# Altium integrated library Spansion Memory Flash.IntLib: 812 symbols (part 3 of 21)
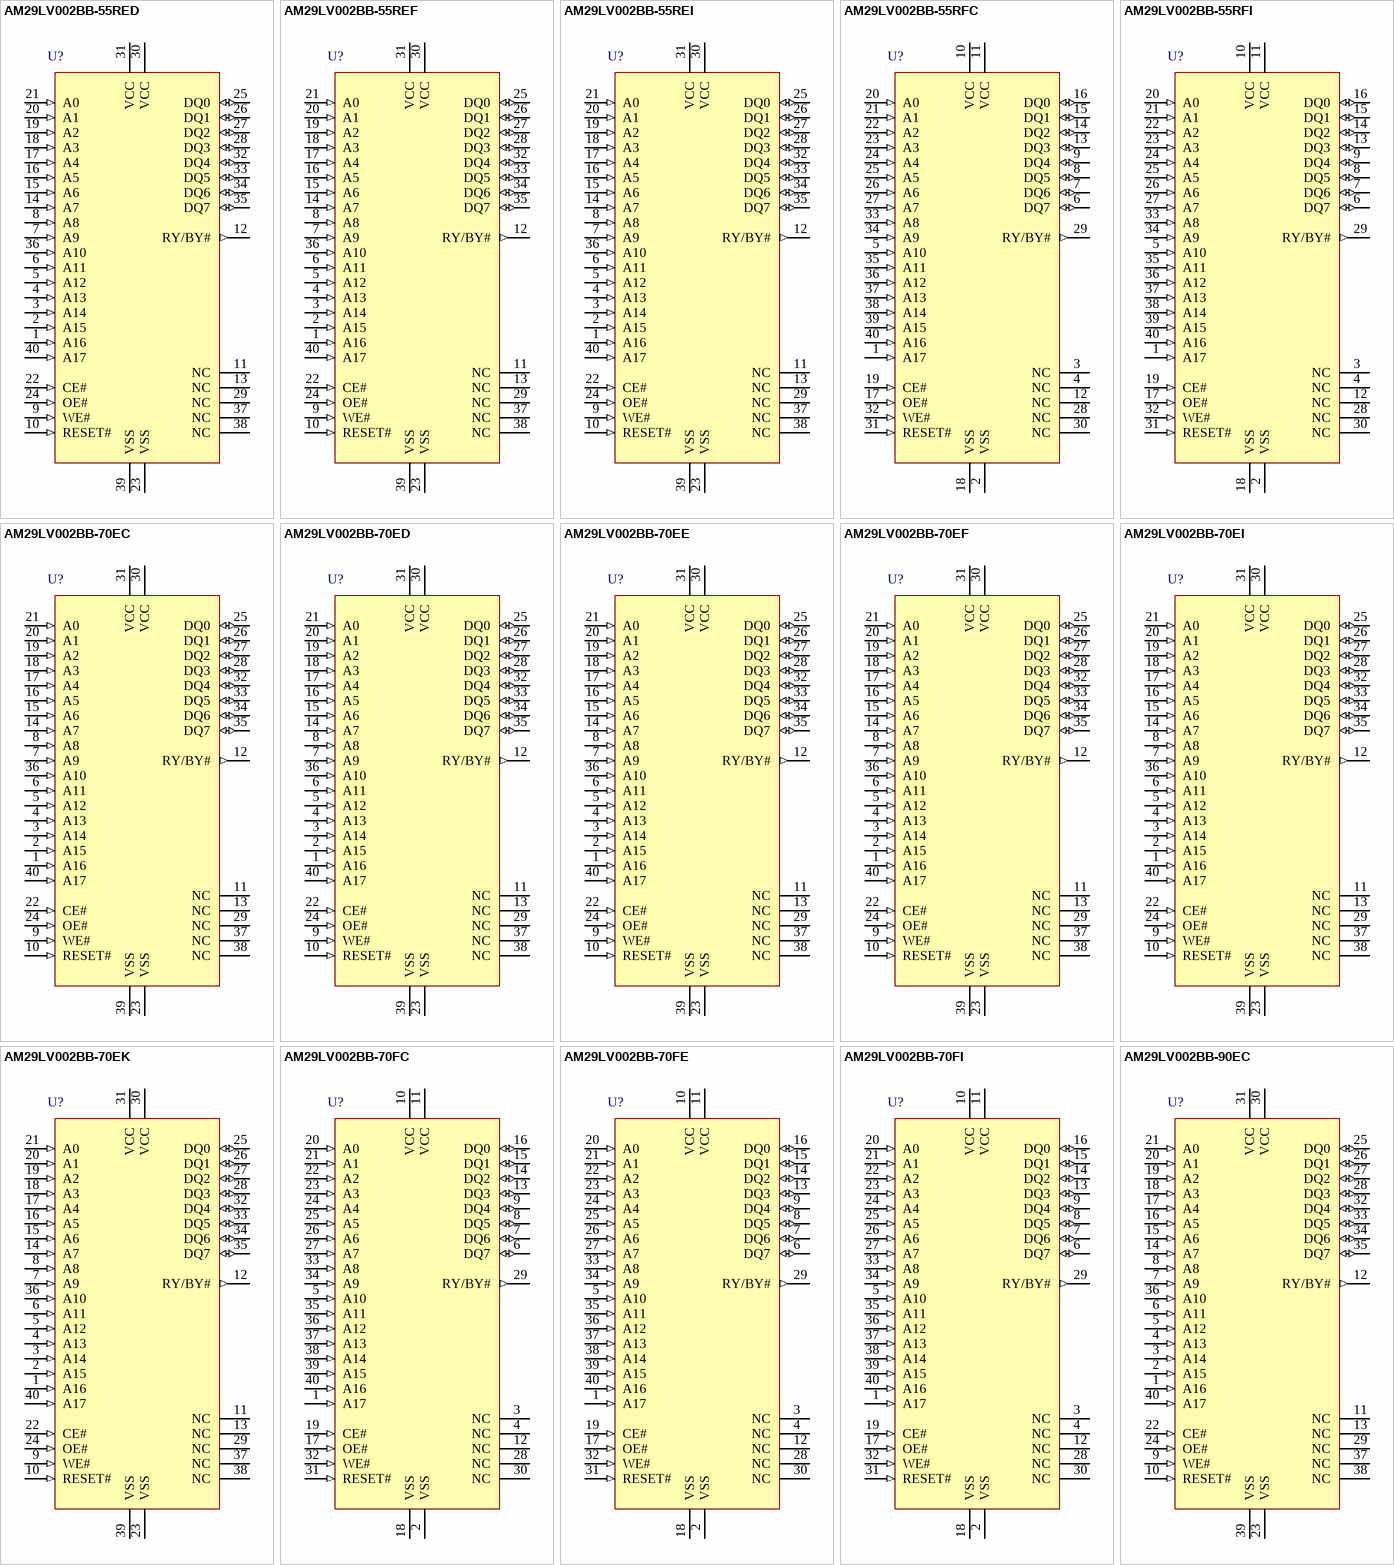
[diagram p68: symbols AM29LV002BB-55RED to AM29LV002BB-90EC]

## AM29LV002BB-55RFC
designator U?
2 Mb (256 K x 8) CMOS 3.0 Volt, Boot Sector Flash Memory, 40-Pin TSOP Reverse Pinout, Commercial Grade; Published: 6-Oct-2005; DatasheetVersion: Jun-2004; PackageVersion: revAA, 10/99; PackageReference: TSR040; Publisher: Altium Limited; PackageDescription: Thin Small Outline, Reverse Pinout; 40 Leads; Body Width 18.4 mm; Pitch 0.5 mm; Code_JEDEC: MO-142-CD; ComponentLink1Description: Manufacturer Link; ComponentLink1URL: http://www.spansion.com/; ComponentLink2Description: Datasheet; ComponentLink2URL: http://www.spansion.com/datasheets/21520d2.pdf
footprint TSR040 (Thin Small Outline, Reverse Pinout; 40 Leads; Body Width 18.4 mm; Pitch 0.5 mm)
pins: 1 A17 (in), 2 VSS (power), 3 NC, 4 NC, 5 A10 (in), 6 DQ7 (io), 7 DQ6 (io), 8 DQ5 (io), 9 DQ4 (io), 10 VCC (power), 11 VCC (power), 12 NC, 13 DQ3 (io), 14 DQ2 (io), 15 DQ1 (io), 16 DQ0 (io), 17 OE# (in), 18 VSS (power), 19 CE# (in), 20 A0 (in), 21 A1 (in), 22 A2 (in), 23 A3 (in), 24 A4 (in), 25 A5 (in), 26 A6 (in), 27 A7 (in), 28 NC, 29 RY/BY# (out), 30 NC, 31 RESET# (in), 32 WE# (in), 33 A8 (in), 34 A9 (in), 35 A11 (in), 36 A12 (in), 37 A13 (in), 38 A14 (in), 39 A15 (in), 40 A16 (in)

## AM29LV002BB-55RFI
designator U?
2 Mb (256 K x 8) CMOS 3.0 Volt, Boot Sector Flash Memory, 40-Pin TSOP Reverse Pinout, Industrial Grade; Published: 6-Oct-2005; DatasheetVersion: Jun-2004; PackageVersion: revAA, 10/99; PackageReference: TSR040; Publisher: Altium Limited; PackageDescription: Thin Small Outline, Reverse Pinout; 40 Leads; Body Width 18.4 mm; Pitch 0.5 mm; Code_JEDEC: MO-142-CD; ComponentLink1Description: Manufacturer Link; ComponentLink1URL: http://www.spansion.com/; ComponentLink2Description: Datasheet; ComponentLink2URL: http://www.spansion.com/datasheets/21520d2.pdf
footprint TSR040 (Thin Small Outline, Reverse Pinout; 40 Leads; Body Width 18.4 mm; Pitch 0.5 mm)
pins: 1 A17 (in), 2 VSS (power), 3 NC, 4 NC, 5 A10 (in), 6 DQ7 (io), 7 DQ6 (io), 8 DQ5 (io), 9 DQ4 (io), 10 VCC (power), 11 VCC (power), 12 NC, 13 DQ3 (io), 14 DQ2 (io), 15 DQ1 (io), 16 DQ0 (io), 17 OE# (in), 18 VSS (power), 19 CE# (in), 20 A0 (in), 21 A1 (in), 22 A2 (in), 23 A3 (in), 24 A4 (in), 25 A5 (in), 26 A6 (in), 27 A7 (in), 28 NC, 29 RY/BY# (out), 30 NC, 31 RESET# (in), 32 WE# (in), 33 A8 (in), 34 A9 (in), 35 A11 (in), 36 A12 (in), 37 A13 (in), 38 A14 (in), 39 A15 (in), 40 A16 (in)

## AM29LV002BB-70EC
designator U?
2 Mb (256 K x 8) CMOS 3.0 Volt, Boot Sector Flash Memory, 40-Pin TSOP Standard Pinout, Commercial Grade; Published: 6-Oct-2005; DatasheetVersion: Jun-2004; PackageVersion: revAA, 10/99; PackageReference: TS040; Publisher: Altium Limited; PackageDescription: Thin Small Outline; 40 Leads; Body Width 18.4 mm; Pitch 0.5 mm; Code_JEDEC: MO-142-CD; ComponentLink1Description: Manufacturer Link; ComponentLink1URL: http://www.spansion.com/; ComponentLink2Description: Datasheet; ComponentLink2URL: http://www.spansion.com/datasheets/21520d2.pdf
footprint TS040 (Thin Small Outline; 40 Leads; Body Width 18.4 mm; Pitch 0.5 mm)
pins: 1 A16 (in), 2 A15 (in), 3 A14 (in), 4 A13 (in), 5 A12 (in), 6 A11 (in), 7 A9 (in), 8 A8 (in), 9 WE# (in), 10 RESET# (in), 11 NC, 12 RY/BY# (out), 13 NC, 14 A7 (in), 15 A6 (in), 16 A5 (in), 17 A4 (in), 18 A3 (in), 19 A2 (in), 20 A1 (in), 21 A0 (in), 22 CE# (in), 23 VSS (power), 24 OE# (in), 25 DQ0 (io), 26 DQ1 (io), 27 DQ2 (io), 28 DQ3 (io), 29 NC, 30 VCC (power), 31 VCC (power), 32 DQ4 (io), 33 DQ5 (io), 34 DQ6 (io), 35 DQ7 (io), 36 A10 (in), 37 NC, 38 NC, 39 VSS (power), 40 A17 (in)

## AM29LV002BB-70ED
designator U?
2 Mb (256 K x 8) CMOS 3.0 Volt, Boot Sector Flash Memory, 40-Pin TSOP Standard Pinout, Commercial Grade, Pb-free; Published: 6-Oct-2005; DatasheetVersion: Jun-2004; PackageVersion: revAA, 10/99; PackageReference: TS040; Publisher: Altium Limited; PackageDescription: Thin Small Outline; 40 Leads; Body Width 18.4 mm; Pitch 0.5 mm; Code_JEDEC: MO-142-CD; ComponentLink1Description: Manufacturer Link; ComponentLink1URL: http://www.spansion.com/; ComponentLink2Description: Datasheet; ComponentLink2URL: http://www.spansion.com/datasheets/21520d2.pdf
footprint TS040 (Thin Small Outline; 40 Leads; Body Width 18.4 mm; Pitch 0.5 mm)
pins: 1 A16 (in), 2 A15 (in), 3 A14 (in), 4 A13 (in), 5 A12 (in), 6 A11 (in), 7 A9 (in), 8 A8 (in), 9 WE# (in), 10 RESET# (in), 11 NC, 12 RY/BY# (out), 13 NC, 14 A7 (in), 15 A6 (in), 16 A5 (in), 17 A4 (in), 18 A3 (in), 19 A2 (in), 20 A1 (in), 21 A0 (in), 22 CE# (in), 23 VSS (power), 24 OE# (in), 25 DQ0 (io), 26 DQ1 (io), 27 DQ2 (io), 28 DQ3 (io), 29 NC, 30 VCC (power), 31 VCC (power), 32 DQ4 (io), 33 DQ5 (io), 34 DQ6 (io), 35 DQ7 (io), 36 A10 (in), 37 NC, 38 NC, 39 VSS (power), 40 A17 (in)

## AM29LV002BB-70EE
designator U?
2 Mb (256 K x 8) CMOS 3.0 Volt, Boot Sector Flash Memory, 40-Pin TSOP Standard Pinout, Extended Grade; Published: 6-Oct-2005; DatasheetVersion: Jun-2004; PackageVersion: revAA, 10/99; PackageReference: TS040; Publisher: Altium Limited; PackageDescription: Thin Small Outline; 40 Leads; Body Width 18.4 mm; Pitch 0.5 mm; Code_JEDEC: MO-142-CD; ComponentLink1Description: Manufacturer Link; ComponentLink1URL: http://www.spansion.com/; ComponentLink2Description: Datasheet; ComponentLink2URL: http://www.spansion.com/datasheets/21520d2.pdf
footprint TS040 (Thin Small Outline; 40 Leads; Body Width 18.4 mm; Pitch 0.5 mm)
pins: 1 A16 (in), 2 A15 (in), 3 A14 (in), 4 A13 (in), 5 A12 (in), 6 A11 (in), 7 A9 (in), 8 A8 (in), 9 WE# (in), 10 RESET# (in), 11 NC, 12 RY/BY# (out), 13 NC, 14 A7 (in), 15 A6 (in), 16 A5 (in), 17 A4 (in), 18 A3 (in), 19 A2 (in), 20 A1 (in), 21 A0 (in), 22 CE# (in), 23 VSS (power), 24 OE# (in), 25 DQ0 (io), 26 DQ1 (io), 27 DQ2 (io), 28 DQ3 (io), 29 NC, 30 VCC (power), 31 VCC (power), 32 DQ4 (io), 33 DQ5 (io), 34 DQ6 (io), 35 DQ7 (io), 36 A10 (in), 37 NC, 38 NC, 39 VSS (power), 40 A17 (in)

## AM29LV002BB-70EF
designator U?
2 Mb (256 K x 8) CMOS 3.0 Volt, Boot Sector Flash Memory, 40-Pin TSOP Standard Pinout, Industrial Grade, Pb-free; Published: 6-Oct-2005; DatasheetVersion: Jun-2004; PackageVersion: revAA, 10/99; PackageReference: TS040; Publisher: Altium Limited; PackageDescription: Thin Small Outline; 40 Leads; Body Width 18.4 mm; Pitch 0.5 mm; Code_JEDEC: MO-142-CD; ComponentLink1Description: Manufacturer Link; ComponentLink1URL: http://www.spansion.com/; ComponentLink2Description: Datasheet; ComponentLink2URL: http://www.spansion.com/datasheets/21520d2.pdf
footprint TS040 (Thin Small Outline; 40 Leads; Body Width 18.4 mm; Pitch 0.5 mm)
pins: 1 A16 (in), 2 A15 (in), 3 A14 (in), 4 A13 (in), 5 A12 (in), 6 A11 (in), 7 A9 (in), 8 A8 (in), 9 WE# (in), 10 RESET# (in), 11 NC, 12 RY/BY# (out), 13 NC, 14 A7 (in), 15 A6 (in), 16 A5 (in), 17 A4 (in), 18 A3 (in), 19 A2 (in), 20 A1 (in), 21 A0 (in), 22 CE# (in), 23 VSS (power), 24 OE# (in), 25 DQ0 (io), 26 DQ1 (io), 27 DQ2 (io), 28 DQ3 (io), 29 NC, 30 VCC (power), 31 VCC (power), 32 DQ4 (io), 33 DQ5 (io), 34 DQ6 (io), 35 DQ7 (io), 36 A10 (in), 37 NC, 38 NC, 39 VSS (power), 40 A17 (in)

## AM29LV002BB-70EI
designator U?
2 Mb (256 K x 8) CMOS 3.0 Volt, Boot Sector Flash Memory, 40-Pin TSOP Standard Pinout, Industrial Grade; Published: 6-Oct-2005; DatasheetVersion: Jun-2004; PackageVersion: revAA, 10/99; PackageReference: TS040; Publisher: Altium Limited; PackageDescription: Thin Small Outline; 40 Leads; Body Width 18.4 mm; Pitch 0.5 mm; Code_JEDEC: MO-142-CD; ComponentLink1Description: Manufacturer Link; ComponentLink1URL: http://www.spansion.com/; ComponentLink2Description: Datasheet; ComponentLink2URL: http://www.spansion.com/datasheets/21520d2.pdf
footprint TS040 (Thin Small Outline; 40 Leads; Body Width 18.4 mm; Pitch 0.5 mm)
pins: 1 A16 (in), 2 A15 (in), 3 A14 (in), 4 A13 (in), 5 A12 (in), 6 A11 (in), 7 A9 (in), 8 A8 (in), 9 WE# (in), 10 RESET# (in), 11 NC, 12 RY/BY# (out), 13 NC, 14 A7 (in), 15 A6 (in), 16 A5 (in), 17 A4 (in), 18 A3 (in), 19 A2 (in), 20 A1 (in), 21 A0 (in), 22 CE# (in), 23 VSS (power), 24 OE# (in), 25 DQ0 (io), 26 DQ1 (io), 27 DQ2 (io), 28 DQ3 (io), 29 NC, 30 VCC (power), 31 VCC (power), 32 DQ4 (io), 33 DQ5 (io), 34 DQ6 (io), 35 DQ7 (io), 36 A10 (in), 37 NC, 38 NC, 39 VSS (power), 40 A17 (in)

## AM29LV002BB-70EK
designator U?
2 Mb (256 K x 8) CMOS 3.0 Volt, Boot Sector Flash Memory, 40-Pin TSOP Standard Pinout, Extended Grade, Pb-free; Published: 6-Oct-2005; DatasheetVersion: Jun-2004; PackageVersion: revAA, 10/99; PackageReference: TS040; Publisher: Altium Limited; PackageDescription: Thin Small Outline; 40 Leads; Body Width 18.4 mm; Pitch 0.5 mm; Code_JEDEC: MO-142-CD; ComponentLink1Description: Manufacturer Link; ComponentLink1URL: http://www.spansion.com/; ComponentLink2Description: Datasheet; ComponentLink2URL: http://www.spansion.com/datasheets/21520d2.pdf
footprint TS040 (Thin Small Outline; 40 Leads; Body Width 18.4 mm; Pitch 0.5 mm)
pins: 1 A16 (in), 2 A15 (in), 3 A14 (in), 4 A13 (in), 5 A12 (in), 6 A11 (in), 7 A9 (in), 8 A8 (in), 9 WE# (in), 10 RESET# (in), 11 NC, 12 RY/BY# (out), 13 NC, 14 A7 (in), 15 A6 (in), 16 A5 (in), 17 A4 (in), 18 A3 (in), 19 A2 (in), 20 A1 (in), 21 A0 (in), 22 CE# (in), 23 VSS (power), 24 OE# (in), 25 DQ0 (io), 26 DQ1 (io), 27 DQ2 (io), 28 DQ3 (io), 29 NC, 30 VCC (power), 31 VCC (power), 32 DQ4 (io), 33 DQ5 (io), 34 DQ6 (io), 35 DQ7 (io), 36 A10 (in), 37 NC, 38 NC, 39 VSS (power), 40 A17 (in)

## AM29LV002BB-70FC
designator U?
2 Mb (256 K x 8) CMOS 3.0 Volt, Boot Sector Flash Memory, 40-Pin TSOP Reverse Pinout, Commercial Grade; Published: 6-Oct-2005; DatasheetVersion: Jun-2004; PackageVersion: revAA, 10/99; PackageReference: TSR040; Publisher: Altium Limited; PackageDescription: Thin Small Outline, Reverse Pinout; 40 Leads; Body Width 18.4 mm; Pitch 0.5 mm; Code_JEDEC: MO-142-CD; ComponentLink1Description: Manufacturer Link; ComponentLink1URL: http://www.spansion.com/; ComponentLink2Description: Datasheet; ComponentLink2URL: http://www.spansion.com/datasheets/21520d2.pdf
footprint TSR040 (Thin Small Outline, Reverse Pinout; 40 Leads; Body Width 18.4 mm; Pitch 0.5 mm)
pins: 1 A17 (in), 2 VSS (power), 3 NC, 4 NC, 5 A10 (in), 6 DQ7 (io), 7 DQ6 (io), 8 DQ5 (io), 9 DQ4 (io), 10 VCC (power), 11 VCC (power), 12 NC, 13 DQ3 (io), 14 DQ2 (io), 15 DQ1 (io), 16 DQ0 (io), 17 OE# (in), 18 VSS (power), 19 CE# (in), 20 A0 (in), 21 A1 (in), 22 A2 (in), 23 A3 (in), 24 A4 (in), 25 A5 (in), 26 A6 (in), 27 A7 (in), 28 NC, 29 RY/BY# (out), 30 NC, 31 RESET# (in), 32 WE# (in), 33 A8 (in), 34 A9 (in), 35 A11 (in), 36 A12 (in), 37 A13 (in), 38 A14 (in), 39 A15 (in), 40 A16 (in)

## AM29LV002BB-70FE
designator U?
2 Mb (256 K x 8) CMOS 3.0 Volt, Boot Sector Flash Memory, 40-Pin TSOP Reverse Pinout, Extended Grade; Published: 6-Oct-2005; DatasheetVersion: Jun-2004; PackageVersion: revAA, 10/99; PackageReference: TSR040; Publisher: Altium Limited; PackageDescription: Thin Small Outline, Reverse Pinout; 40 Leads; Body Width 18.4 mm; Pitch 0.5 mm; Code_JEDEC: MO-142-CD; ComponentLink1Description: Manufacturer Link; ComponentLink1URL: http://www.spansion.com/; ComponentLink2Description: Datasheet; ComponentLink2URL: http://www.spansion.com/datasheets/21520d2.pdf
footprint TSR040 (Thin Small Outline, Reverse Pinout; 40 Leads; Body Width 18.4 mm; Pitch 0.5 mm)
pins: 1 A17 (in), 2 VSS (power), 3 NC, 4 NC, 5 A10 (in), 6 DQ7 (io), 7 DQ6 (io), 8 DQ5 (io), 9 DQ4 (io), 10 VCC (power), 11 VCC (power), 12 NC, 13 DQ3 (io), 14 DQ2 (io), 15 DQ1 (io), 16 DQ0 (io), 17 OE# (in), 18 VSS (power), 19 CE# (in), 20 A0 (in), 21 A1 (in), 22 A2 (in), 23 A3 (in), 24 A4 (in), 25 A5 (in), 26 A6 (in), 27 A7 (in), 28 NC, 29 RY/BY# (out), 30 NC, 31 RESET# (in), 32 WE# (in), 33 A8 (in), 34 A9 (in), 35 A11 (in), 36 A12 (in), 37 A13 (in), 38 A14 (in), 39 A15 (in), 40 A16 (in)

## AM29LV002BB-70FI
designator U?
2 Mb (256 K x 8) CMOS 3.0 Volt, Boot Sector Flash Memory, 40-Pin TSOP Reverse Pinout, Industrial Grade; Published: 6-Oct-2005; DatasheetVersion: Jun-2004; PackageVersion: revAA, 10/99; PackageReference: TSR040; Publisher: Altium Limited; PackageDescription: Thin Small Outline, Reverse Pinout; 40 Leads; Body Width 18.4 mm; Pitch 0.5 mm; Code_JEDEC: MO-142-CD; ComponentLink1Description: Manufacturer Link; ComponentLink1URL: http://www.spansion.com/; ComponentLink2Description: Datasheet; ComponentLink2URL: http://www.spansion.com/datasheets/21520d2.pdf
footprint TSR040 (Thin Small Outline, Reverse Pinout; 40 Leads; Body Width 18.4 mm; Pitch 0.5 mm)
pins: 1 A17 (in), 2 VSS (power), 3 NC, 4 NC, 5 A10 (in), 6 DQ7 (io), 7 DQ6 (io), 8 DQ5 (io), 9 DQ4 (io), 10 VCC (power), 11 VCC (power), 12 NC, 13 DQ3 (io), 14 DQ2 (io), 15 DQ1 (io), 16 DQ0 (io), 17 OE# (in), 18 VSS (power), 19 CE# (in), 20 A0 (in), 21 A1 (in), 22 A2 (in), 23 A3 (in), 24 A4 (in), 25 A5 (in), 26 A6 (in), 27 A7 (in), 28 NC, 29 RY/BY# (out), 30 NC, 31 RESET# (in), 32 WE# (in), 33 A8 (in), 34 A9 (in), 35 A11 (in), 36 A12 (in), 37 A13 (in), 38 A14 (in), 39 A15 (in), 40 A16 (in)

## AM29LV002BB-90EC
designator U?
2 Mb (256 K x 8) CMOS 3.0 Volt, Boot Sector Flash Memory, 40-Pin TSOP Standard Pinout, Commercial Grade; Published: 6-Oct-2005; DatasheetVersion: Jun-2004; PackageVersion: revAA, 10/99; PackageReference: TS040; Publisher: Altium Limited; PackageDescription: Thin Small Outline; 40 Leads; Body Width 18.4 mm; Pitch 0.5 mm; Code_JEDEC: MO-142-CD; ComponentLink1Description: Manufacturer Link; ComponentLink1URL: http://www.spansion.com/; ComponentLink2Description: Datasheet; ComponentLink2URL: http://www.spansion.com/datasheets/21520d2.pdf
footprint TS040 (Thin Small Outline; 40 Leads; Body Width 18.4 mm; Pitch 0.5 mm)
pins: 1 A16 (in), 2 A15 (in), 3 A14 (in), 4 A13 (in), 5 A12 (in), 6 A11 (in), 7 A9 (in), 8 A8 (in), 9 WE# (in), 10 RESET# (in), 11 NC, 12 RY/BY# (out), 13 NC, 14 A7 (in), 15 A6 (in), 16 A5 (in), 17 A4 (in), 18 A3 (in), 19 A2 (in), 20 A1 (in), 21 A0 (in), 22 CE# (in), 23 VSS (power), 24 OE# (in), 25 DQ0 (io), 26 DQ1 (io), 27 DQ2 (io), 28 DQ3 (io), 29 NC, 30 VCC (power), 31 VCC (power), 32 DQ4 (io), 33 DQ5 (io), 34 DQ6 (io), 35 DQ7 (io), 36 A10 (in), 37 NC, 38 NC, 39 VSS (power), 40 A17 (in)

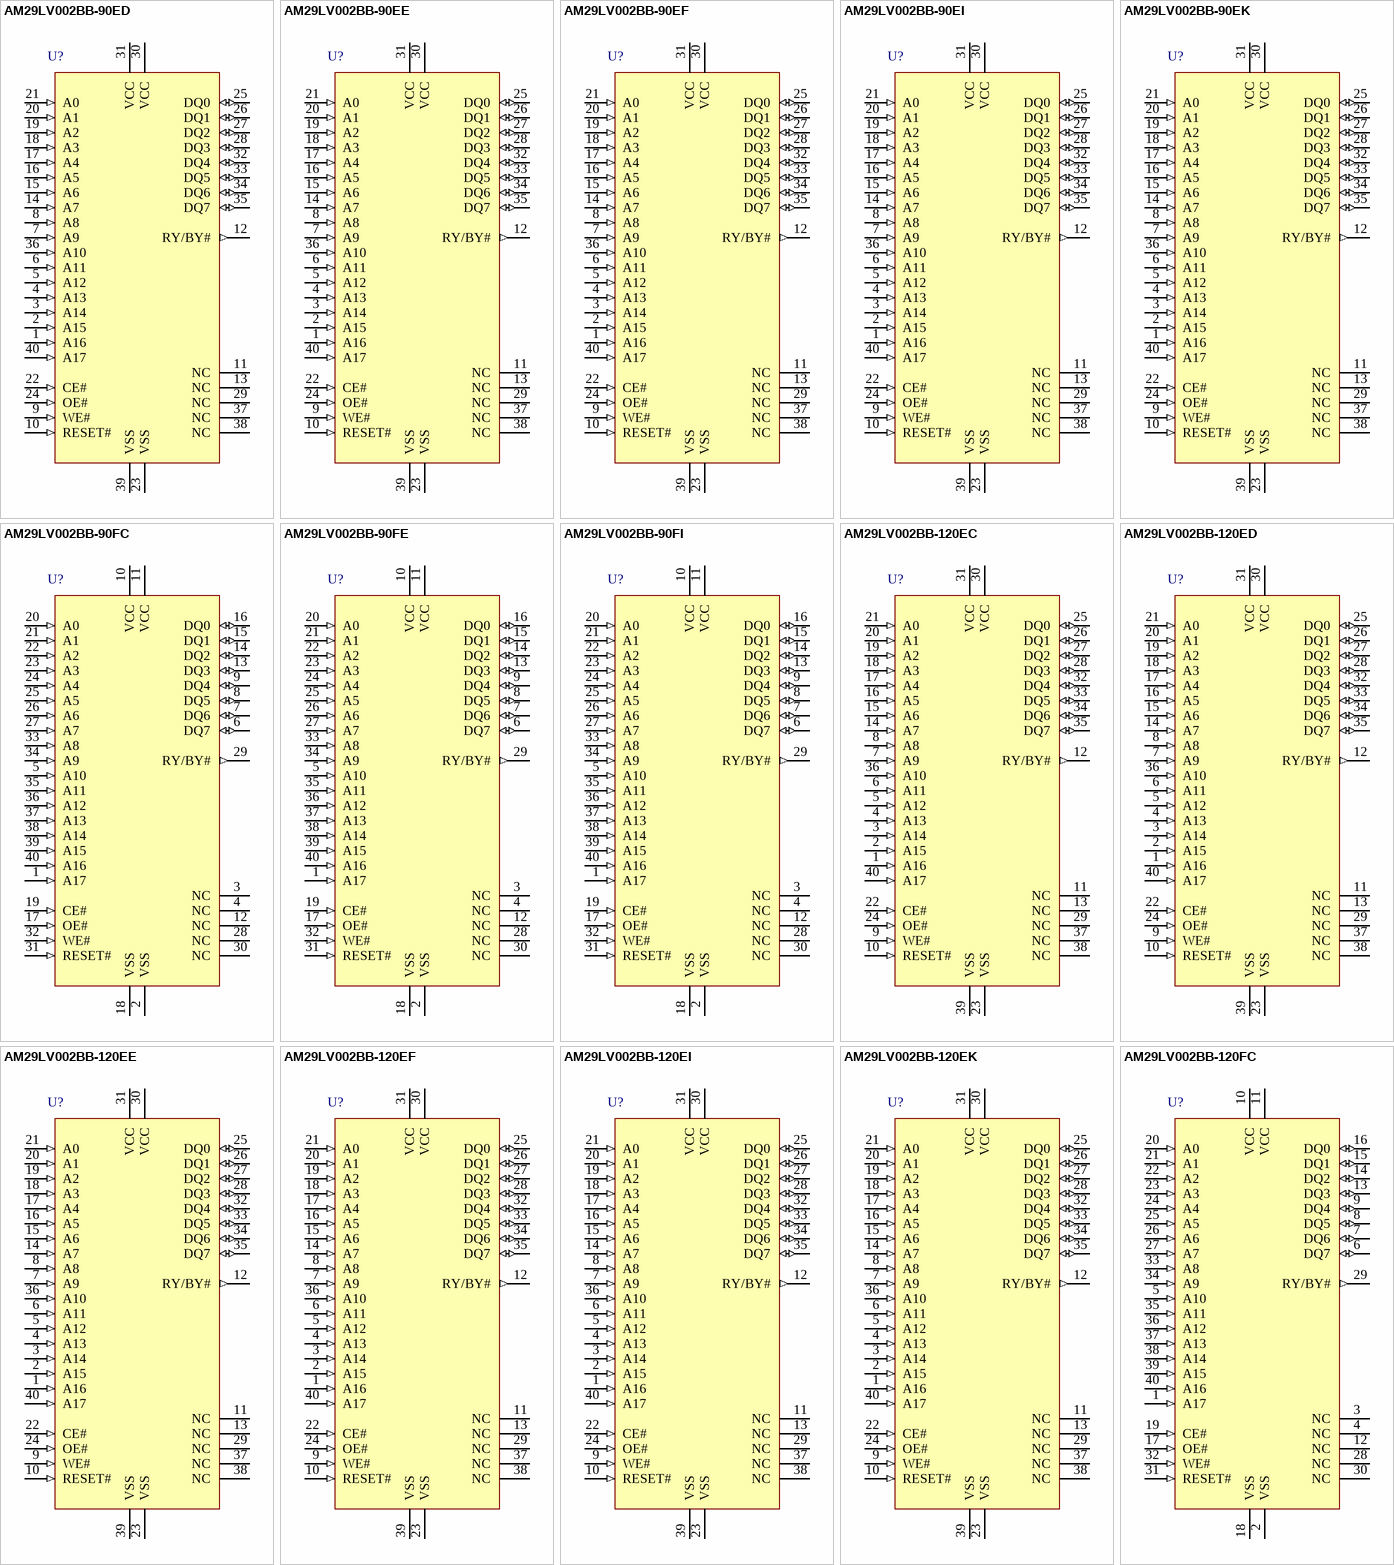
[diagram p6: symbols AM29LV002BB-90ED to AM29LV002BB-120FC]

## AM29LV002BB-90ED
designator U?
2 Mb (256 K x 8) CMOS 3.0 Volt, Boot Sector Flash Memory, 40-Pin TSOP Standard Pinout, Commercial Grade, Pb-free; Published: 6-Oct-2005; DatasheetVersion: Jun-2004; PackageVersion: revAA, 10/99; PackageReference: TS040; Publisher: Altium Limited; PackageDescription: Thin Small Outline; 40 Leads; Body Width 18.4 mm; Pitch 0.5 mm; Code_JEDEC: MO-142-CD; ComponentLink1Description: Manufacturer Link; ComponentLink1URL: http://www.spansion.com/; ComponentLink2Description: Datasheet; ComponentLink2URL: http://www.spansion.com/datasheets/21520d2.pdf
footprint TS040 (Thin Small Outline; 40 Leads; Body Width 18.4 mm; Pitch 0.5 mm)
pins: 1 A16 (in), 2 A15 (in), 3 A14 (in), 4 A13 (in), 5 A12 (in), 6 A11 (in), 7 A9 (in), 8 A8 (in), 9 WE# (in), 10 RESET# (in), 11 NC, 12 RY/BY# (out), 13 NC, 14 A7 (in), 15 A6 (in), 16 A5 (in), 17 A4 (in), 18 A3 (in), 19 A2 (in), 20 A1 (in), 21 A0 (in), 22 CE# (in), 23 VSS (power), 24 OE# (in), 25 DQ0 (io), 26 DQ1 (io), 27 DQ2 (io), 28 DQ3 (io), 29 NC, 30 VCC (power), 31 VCC (power), 32 DQ4 (io), 33 DQ5 (io), 34 DQ6 (io), 35 DQ7 (io), 36 A10 (in), 37 NC, 38 NC, 39 VSS (power), 40 A17 (in)

## AM29LV002BB-90EE
designator U?
2 Mb (256 K x 8) CMOS 3.0 Volt, Boot Sector Flash Memory, 40-Pin TSOP Standard Pinout, Extended Grade; Published: 6-Oct-2005; DatasheetVersion: Jun-2004; PackageVersion: revAA, 10/99; PackageReference: TS040; Publisher: Altium Limited; PackageDescription: Thin Small Outline; 40 Leads; Body Width 18.4 mm; Pitch 0.5 mm; Code_JEDEC: MO-142-CD; ComponentLink1Description: Manufacturer Link; ComponentLink1URL: http://www.spansion.com/; ComponentLink2Description: Datasheet; ComponentLink2URL: http://www.spansion.com/datasheets/21520d2.pdf
footprint TS040 (Thin Small Outline; 40 Leads; Body Width 18.4 mm; Pitch 0.5 mm)
pins: 1 A16 (in), 2 A15 (in), 3 A14 (in), 4 A13 (in), 5 A12 (in), 6 A11 (in), 7 A9 (in), 8 A8 (in), 9 WE# (in), 10 RESET# (in), 11 NC, 12 RY/BY# (out), 13 NC, 14 A7 (in), 15 A6 (in), 16 A5 (in), 17 A4 (in), 18 A3 (in), 19 A2 (in), 20 A1 (in), 21 A0 (in), 22 CE# (in), 23 VSS (power), 24 OE# (in), 25 DQ0 (io), 26 DQ1 (io), 27 DQ2 (io), 28 DQ3 (io), 29 NC, 30 VCC (power), 31 VCC (power), 32 DQ4 (io), 33 DQ5 (io), 34 DQ6 (io), 35 DQ7 (io), 36 A10 (in), 37 NC, 38 NC, 39 VSS (power), 40 A17 (in)

## AM29LV002BB-90EF
designator U?
2 Mb (256 K x 8) CMOS 3.0 Volt, Boot Sector Flash Memory, 40-Pin TSOP Standard Pinout, Industrial Grade, Pb-free; Published: 6-Oct-2005; DatasheetVersion: Jun-2004; PackageVersion: revAA, 10/99; PackageReference: TS040; Publisher: Altium Limited; PackageDescription: Thin Small Outline; 40 Leads; Body Width 18.4 mm; Pitch 0.5 mm; Code_JEDEC: MO-142-CD; ComponentLink1Description: Manufacturer Link; ComponentLink1URL: http://www.spansion.com/; ComponentLink2Description: Datasheet; ComponentLink2URL: http://www.spansion.com/datasheets/21520d2.pdf
footprint TS040 (Thin Small Outline; 40 Leads; Body Width 18.4 mm; Pitch 0.5 mm)
pins: 1 A16 (in), 2 A15 (in), 3 A14 (in), 4 A13 (in), 5 A12 (in), 6 A11 (in), 7 A9 (in), 8 A8 (in), 9 WE# (in), 10 RESET# (in), 11 NC, 12 RY/BY# (out), 13 NC, 14 A7 (in), 15 A6 (in), 16 A5 (in), 17 A4 (in), 18 A3 (in), 19 A2 (in), 20 A1 (in), 21 A0 (in), 22 CE# (in), 23 VSS (power), 24 OE# (in), 25 DQ0 (io), 26 DQ1 (io), 27 DQ2 (io), 28 DQ3 (io), 29 NC, 30 VCC (power), 31 VCC (power), 32 DQ4 (io), 33 DQ5 (io), 34 DQ6 (io), 35 DQ7 (io), 36 A10 (in), 37 NC, 38 NC, 39 VSS (power), 40 A17 (in)

## AM29LV002BB-90EI
designator U?
2 Mb (256 K x 8) CMOS 3.0 Volt, Boot Sector Flash Memory, 40-Pin TSOP Standard Pinout, Industrial Grade; Published: 6-Oct-2005; DatasheetVersion: Jun-2004; PackageVersion: revAA, 10/99; PackageReference: TS040; Publisher: Altium Limited; PackageDescription: Thin Small Outline; 40 Leads; Body Width 18.4 mm; Pitch 0.5 mm; Code_JEDEC: MO-142-CD; ComponentLink1Description: Manufacturer Link; ComponentLink1URL: http://www.spansion.com/; ComponentLink2Description: Datasheet; ComponentLink2URL: http://www.spansion.com/datasheets/21520d2.pdf
footprint TS040 (Thin Small Outline; 40 Leads; Body Width 18.4 mm; Pitch 0.5 mm)
pins: 1 A16 (in), 2 A15 (in), 3 A14 (in), 4 A13 (in), 5 A12 (in), 6 A11 (in), 7 A9 (in), 8 A8 (in), 9 WE# (in), 10 RESET# (in), 11 NC, 12 RY/BY# (out), 13 NC, 14 A7 (in), 15 A6 (in), 16 A5 (in), 17 A4 (in), 18 A3 (in), 19 A2 (in), 20 A1 (in), 21 A0 (in), 22 CE# (in), 23 VSS (power), 24 OE# (in), 25 DQ0 (io), 26 DQ1 (io), 27 DQ2 (io), 28 DQ3 (io), 29 NC, 30 VCC (power), 31 VCC (power), 32 DQ4 (io), 33 DQ5 (io), 34 DQ6 (io), 35 DQ7 (io), 36 A10 (in), 37 NC, 38 NC, 39 VSS (power), 40 A17 (in)

## AM29LV002BB-90EK
designator U?
2 Mb (256 K x 8) CMOS 3.0 Volt, Boot Sector Flash Memory, 40-Pin TSOP Standard Pinout, Extended Grade, Pb-free; Published: 6-Oct-2005; DatasheetVersion: Jun-2004; PackageVersion: revAA, 10/99; PackageReference: TS040; Publisher: Altium Limited; PackageDescription: Thin Small Outline; 40 Leads; Body Width 18.4 mm; Pitch 0.5 mm; Code_JEDEC: MO-142-CD; ComponentLink1Description: Manufacturer Link; ComponentLink1URL: http://www.spansion.com/; ComponentLink2Description: Datasheet; ComponentLink2URL: http://www.spansion.com/datasheets/21520d2.pdf
footprint TS040 (Thin Small Outline; 40 Leads; Body Width 18.4 mm; Pitch 0.5 mm)
pins: 1 A16 (in), 2 A15 (in), 3 A14 (in), 4 A13 (in), 5 A12 (in), 6 A11 (in), 7 A9 (in), 8 A8 (in), 9 WE# (in), 10 RESET# (in), 11 NC, 12 RY/BY# (out), 13 NC, 14 A7 (in), 15 A6 (in), 16 A5 (in), 17 A4 (in), 18 A3 (in), 19 A2 (in), 20 A1 (in), 21 A0 (in), 22 CE# (in), 23 VSS (power), 24 OE# (in), 25 DQ0 (io), 26 DQ1 (io), 27 DQ2 (io), 28 DQ3 (io), 29 NC, 30 VCC (power), 31 VCC (power), 32 DQ4 (io), 33 DQ5 (io), 34 DQ6 (io), 35 DQ7 (io), 36 A10 (in), 37 NC, 38 NC, 39 VSS (power), 40 A17 (in)

## AM29LV002BB-90FC
designator U?
2 Mb (256 K x 8) CMOS 3.0 Volt, Boot Sector Flash Memory, 40-Pin TSOP Reverse Pinout, Commercial Grade; Published: 6-Oct-2005; DatasheetVersion: Jun-2004; PackageVersion: revAA, 10/99; PackageReference: TSR040; Publisher: Altium Limited; PackageDescription: Thin Small Outline, Reverse Pinout; 40 Leads; Body Width 18.4 mm; Pitch 0.5 mm; Code_JEDEC: MO-142-CD; ComponentLink1Description: Manufacturer Link; ComponentLink1URL: http://www.spansion.com/; ComponentLink2Description: Datasheet; ComponentLink2URL: http://www.spansion.com/datasheets/21520d2.pdf
footprint TSR040 (Thin Small Outline, Reverse Pinout; 40 Leads; Body Width 18.4 mm; Pitch 0.5 mm)
pins: 1 A17 (in), 2 VSS (power), 3 NC, 4 NC, 5 A10 (in), 6 DQ7 (io), 7 DQ6 (io), 8 DQ5 (io), 9 DQ4 (io), 10 VCC (power), 11 VCC (power), 12 NC, 13 DQ3 (io), 14 DQ2 (io), 15 DQ1 (io), 16 DQ0 (io), 17 OE# (in), 18 VSS (power), 19 CE# (in), 20 A0 (in), 21 A1 (in), 22 A2 (in), 23 A3 (in), 24 A4 (in), 25 A5 (in), 26 A6 (in), 27 A7 (in), 28 NC, 29 RY/BY# (out), 30 NC, 31 RESET# (in), 32 WE# (in), 33 A8 (in), 34 A9 (in), 35 A11 (in), 36 A12 (in), 37 A13 (in), 38 A14 (in), 39 A15 (in), 40 A16 (in)

## AM29LV002BB-90FE
designator U?
2 Mb (256 K x 8) CMOS 3.0 Volt, Boot Sector Flash Memory, 40-Pin TSOP Reverse Pinout, Extended Grade; Published: 6-Oct-2005; DatasheetVersion: Jun-2004; PackageVersion: revAA, 10/99; PackageReference: TSR040; Publisher: Altium Limited; PackageDescription: Thin Small Outline, Reverse Pinout; 40 Leads; Body Width 18.4 mm; Pitch 0.5 mm; Code_JEDEC: MO-142-CD; ComponentLink1Description: Manufacturer Link; ComponentLink1URL: http://www.spansion.com/; ComponentLink2Description: Datasheet; ComponentLink2URL: http://www.spansion.com/datasheets/21520d2.pdf
footprint TSR040 (Thin Small Outline, Reverse Pinout; 40 Leads; Body Width 18.4 mm; Pitch 0.5 mm)
pins: 1 A17 (in), 2 VSS (power), 3 NC, 4 NC, 5 A10 (in), 6 DQ7 (io), 7 DQ6 (io), 8 DQ5 (io), 9 DQ4 (io), 10 VCC (power), 11 VCC (power), 12 NC, 13 DQ3 (io), 14 DQ2 (io), 15 DQ1 (io), 16 DQ0 (io), 17 OE# (in), 18 VSS (power), 19 CE# (in), 20 A0 (in), 21 A1 (in), 22 A2 (in), 23 A3 (in), 24 A4 (in), 25 A5 (in), 26 A6 (in), 27 A7 (in), 28 NC, 29 RY/BY# (out), 30 NC, 31 RESET# (in), 32 WE# (in), 33 A8 (in), 34 A9 (in), 35 A11 (in), 36 A12 (in), 37 A13 (in), 38 A14 (in), 39 A15 (in), 40 A16 (in)

## AM29LV002BB-90FI
designator U?
2 Mb (256 K x 8) CMOS 3.0 Volt, Boot Sector Flash Memory, 40-Pin TSOP Reverse Pinout, Industrial Grade; Published: 6-Oct-2005; DatasheetVersion: Jun-2004; PackageVersion: revAA, 10/99; PackageReference: TSR040; Publisher: Altium Limited; PackageDescription: Thin Small Outline, Reverse Pinout; 40 Leads; Body Width 18.4 mm; Pitch 0.5 mm; Code_JEDEC: MO-142-CD; ComponentLink1Description: Manufacturer Link; ComponentLink1URL: http://www.spansion.com/; ComponentLink2Description: Datasheet; ComponentLink2URL: http://www.spansion.com/datasheets/21520d2.pdf
footprint TSR040 (Thin Small Outline, Reverse Pinout; 40 Leads; Body Width 18.4 mm; Pitch 0.5 mm)
pins: 1 A17 (in), 2 VSS (power), 3 NC, 4 NC, 5 A10 (in), 6 DQ7 (io), 7 DQ6 (io), 8 DQ5 (io), 9 DQ4 (io), 10 VCC (power), 11 VCC (power), 12 NC, 13 DQ3 (io), 14 DQ2 (io), 15 DQ1 (io), 16 DQ0 (io), 17 OE# (in), 18 VSS (power), 19 CE# (in), 20 A0 (in), 21 A1 (in), 22 A2 (in), 23 A3 (in), 24 A4 (in), 25 A5 (in), 26 A6 (in), 27 A7 (in), 28 NC, 29 RY/BY# (out), 30 NC, 31 RESET# (in), 32 WE# (in), 33 A8 (in), 34 A9 (in), 35 A11 (in), 36 A12 (in), 37 A13 (in), 38 A14 (in), 39 A15 (in), 40 A16 (in)

## AM29LV002BB-120EC
designator U?
2 Mb (256 K x 8) CMOS 3.0 Volt, Boot Sector Flash Memory, 40-Pin TSOP Standard Pinout, Commercial Grade; Published: 6-Oct-2005; DatasheetVersion: Jun-2004; PackageVersion: revAA, 10/99; PackageReference: TS040; Publisher: Altium Limited; PackageDescription: Thin Small Outline; 40 Leads; Body Width 18.4 mm; Pitch 0.5 mm; Code_JEDEC: MO-142-CD; ComponentLink1Description: Manufacturer Link; ComponentLink1URL: http://www.spansion.com/; ComponentLink2Description: Datasheet; ComponentLink2URL: http://www.spansion.com/datasheets/21520d2.pdf
footprint TS040 (Thin Small Outline; 40 Leads; Body Width 18.4 mm; Pitch 0.5 mm)
pins: 1 A16 (in), 2 A15 (in), 3 A14 (in), 4 A13 (in), 5 A12 (in), 6 A11 (in), 7 A9 (in), 8 A8 (in), 9 WE# (in), 10 RESET# (in), 11 NC, 12 RY/BY# (out), 13 NC, 14 A7 (in), 15 A6 (in), 16 A5 (in), 17 A4 (in), 18 A3 (in), 19 A2 (in), 20 A1 (in), 21 A0 (in), 22 CE# (in), 23 VSS (power), 24 OE# (in), 25 DQ0 (io), 26 DQ1 (io), 27 DQ2 (io), 28 DQ3 (io), 29 NC, 30 VCC (power), 31 VCC (power), 32 DQ4 (io), 33 DQ5 (io), 34 DQ6 (io), 35 DQ7 (io), 36 A10 (in), 37 NC, 38 NC, 39 VSS (power), 40 A17 (in)

## AM29LV002BB-120ED
designator U?
2 Mb (256 K x 8) CMOS 3.0 Volt, Boot Sector Flash Memory, 40-Pin TSOP Standard Pinout, Commercial Grade, Pb-free; Published: 6-Oct-2005; DatasheetVersion: Jun-2004; PackageVersion: revAA, 10/99; PackageReference: TS040; Publisher: Altium Limited; PackageDescription: Thin Small Outline; 40 Leads; Body Width 18.4 mm; Pitch 0.5 mm; Code_JEDEC: MO-142-CD; ComponentLink1Description: Manufacturer Link; ComponentLink1URL: http://www.spansion.com/; ComponentLink2Description: Datasheet; ComponentLink2URL: http://www.spansion.com/datasheets/21520d2.pdf
footprint TS040 (Thin Small Outline; 40 Leads; Body Width 18.4 mm; Pitch 0.5 mm)
pins: 1 A16 (in), 2 A15 (in), 3 A14 (in), 4 A13 (in), 5 A12 (in), 6 A11 (in), 7 A9 (in), 8 A8 (in), 9 WE# (in), 10 RESET# (in), 11 NC, 12 RY/BY# (out), 13 NC, 14 A7 (in), 15 A6 (in), 16 A5 (in), 17 A4 (in), 18 A3 (in), 19 A2 (in), 20 A1 (in), 21 A0 (in), 22 CE# (in), 23 VSS (power), 24 OE# (in), 25 DQ0 (io), 26 DQ1 (io), 27 DQ2 (io), 28 DQ3 (io), 29 NC, 30 VCC (power), 31 VCC (power), 32 DQ4 (io), 33 DQ5 (io), 34 DQ6 (io), 35 DQ7 (io), 36 A10 (in), 37 NC, 38 NC, 39 VSS (power), 40 A17 (in)

## AM29LV002BB-120EE
designator U?
2 Mb (256 K x 8) CMOS 3.0 Volt, Boot Sector Flash Memory, 40-Pin TSOP Standard Pinout, Extended Grade; Published: 6-Oct-2005; DatasheetVersion: Jun-2004; PackageVersion: revAA, 10/99; PackageReference: TS040; Publisher: Altium Limited; PackageDescription: Thin Small Outline; 40 Leads; Body Width 18.4 mm; Pitch 0.5 mm; Code_JEDEC: MO-142-CD; ComponentLink1Description: Manufacturer Link; ComponentLink1URL: http://www.spansion.com/; ComponentLink2Description: Datasheet; ComponentLink2URL: http://www.spansion.com/datasheets/21520d2.pdf
footprint TS040 (Thin Small Outline; 40 Leads; Body Width 18.4 mm; Pitch 0.5 mm)
pins: 1 A16 (in), 2 A15 (in), 3 A14 (in), 4 A13 (in), 5 A12 (in), 6 A11 (in), 7 A9 (in), 8 A8 (in), 9 WE# (in), 10 RESET# (in), 11 NC, 12 RY/BY# (out), 13 NC, 14 A7 (in), 15 A6 (in), 16 A5 (in), 17 A4 (in), 18 A3 (in), 19 A2 (in), 20 A1 (in), 21 A0 (in), 22 CE# (in), 23 VSS (power), 24 OE# (in), 25 DQ0 (io), 26 DQ1 (io), 27 DQ2 (io), 28 DQ3 (io), 29 NC, 30 VCC (power), 31 VCC (power), 32 DQ4 (io), 33 DQ5 (io), 34 DQ6 (io), 35 DQ7 (io), 36 A10 (in), 37 NC, 38 NC, 39 VSS (power), 40 A17 (in)

## AM29LV002BB-120EF
designator U?
2 Mb (256 K x 8) CMOS 3.0 Volt, Boot Sector Flash Memory, 40-Pin TSOP Standard Pinout, Industrial Grade, Pb-free; Published: 6-Oct-2005; DatasheetVersion: Jun-2004; PackageVersion: revAA, 10/99; PackageReference: TS040; Publisher: Altium Limited; PackageDescription: Thin Small Outline; 40 Leads; Body Width 18.4 mm; Pitch 0.5 mm; Code_JEDEC: MO-142-CD; ComponentLink1Description: Manufacturer Link; ComponentLink1URL: http://www.spansion.com/; ComponentLink2Description: Datasheet; ComponentLink2URL: http://www.spansion.com/datasheets/21520d2.pdf
footprint TS040 (Thin Small Outline; 40 Leads; Body Width 18.4 mm; Pitch 0.5 mm)
pins: 1 A16 (in), 2 A15 (in), 3 A14 (in), 4 A13 (in), 5 A12 (in), 6 A11 (in), 7 A9 (in), 8 A8 (in), 9 WE# (in), 10 RESET# (in), 11 NC, 12 RY/BY# (out), 13 NC, 14 A7 (in), 15 A6 (in), 16 A5 (in), 17 A4 (in), 18 A3 (in), 19 A2 (in), 20 A1 (in), 21 A0 (in), 22 CE# (in), 23 VSS (power), 24 OE# (in), 25 DQ0 (io), 26 DQ1 (io), 27 DQ2 (io), 28 DQ3 (io), 29 NC, 30 VCC (power), 31 VCC (power), 32 DQ4 (io), 33 DQ5 (io), 34 DQ6 (io), 35 DQ7 (io), 36 A10 (in), 37 NC, 38 NC, 39 VSS (power), 40 A17 (in)

## AM29LV002BB-120EI
designator U?
2 Mb (256 K x 8) CMOS 3.0 Volt, Boot Sector Flash Memory, 40-Pin TSOP Standard Pinout, Industrial Grade; Published: 6-Oct-2005; DatasheetVersion: Jun-2004; PackageVersion: revAA, 10/99; PackageReference: TS040; Publisher: Altium Limited; PackageDescription: Thin Small Outline; 40 Leads; Body Width 18.4 mm; Pitch 0.5 mm; Code_JEDEC: MO-142-CD; ComponentLink1Description: Manufacturer Link; ComponentLink1URL: http://www.spansion.com/; ComponentLink2Description: Datasheet; ComponentLink2URL: http://www.spansion.com/datasheets/21520d2.pdf
footprint TS040 (Thin Small Outline; 40 Leads; Body Width 18.4 mm; Pitch 0.5 mm)
pins: 1 A16 (in), 2 A15 (in), 3 A14 (in), 4 A13 (in), 5 A12 (in), 6 A11 (in), 7 A9 (in), 8 A8 (in), 9 WE# (in), 10 RESET# (in), 11 NC, 12 RY/BY# (out), 13 NC, 14 A7 (in), 15 A6 (in), 16 A5 (in), 17 A4 (in), 18 A3 (in), 19 A2 (in), 20 A1 (in), 21 A0 (in), 22 CE# (in), 23 VSS (power), 24 OE# (in), 25 DQ0 (io), 26 DQ1 (io), 27 DQ2 (io), 28 DQ3 (io), 29 NC, 30 VCC (power), 31 VCC (power), 32 DQ4 (io), 33 DQ5 (io), 34 DQ6 (io), 35 DQ7 (io), 36 A10 (in), 37 NC, 38 NC, 39 VSS (power), 40 A17 (in)

## AM29LV002BB-120EK
designator U?
2 Mb (256 K x 8) CMOS 3.0 Volt, Boot Sector Flash Memory, 40-Pin TSOP Standard Pinout, Extended Grade, Pb-free; Published: 6-Oct-2005; DatasheetVersion: Jun-2004; PackageVersion: revAA, 10/99; PackageReference: TS040; Publisher: Altium Limited; PackageDescription: Thin Small Outline; 40 Leads; Body Width 18.4 mm; Pitch 0.5 mm; Code_JEDEC: MO-142-CD; ComponentLink1Description: Manufacturer Link; ComponentLink1URL: http://www.spansion.com/; ComponentLink2Description: Datasheet; ComponentLink2URL: http://www.spansion.com/datasheets/21520d2.pdf
footprint TS040 (Thin Small Outline; 40 Leads; Body Width 18.4 mm; Pitch 0.5 mm)
pins: 1 A16 (in), 2 A15 (in), 3 A14 (in), 4 A13 (in), 5 A12 (in), 6 A11 (in), 7 A9 (in), 8 A8 (in), 9 WE# (in), 10 RESET# (in), 11 NC, 12 RY/BY# (out), 13 NC, 14 A7 (in), 15 A6 (in), 16 A5 (in), 17 A4 (in), 18 A3 (in), 19 A2 (in), 20 A1 (in), 21 A0 (in), 22 CE# (in), 23 VSS (power), 24 OE# (in), 25 DQ0 (io), 26 DQ1 (io), 27 DQ2 (io), 28 DQ3 (io), 29 NC, 30 VCC (power), 31 VCC (power), 32 DQ4 (io), 33 DQ5 (io), 34 DQ6 (io), 35 DQ7 (io), 36 A10 (in), 37 NC, 38 NC, 39 VSS (power), 40 A17 (in)

## AM29LV002BB-120FC
designator U?
2 Mb (256 K x 8) CMOS 3.0 Volt, Boot Sector Flash Memory, 40-Pin TSOP Reverse Pinout, Commercial Grade; Published: 6-Oct-2005; DatasheetVersion: Jun-2004; PackageVersion: revAA, 10/99; PackageReference: TSR040; Publisher: Altium Limited; PackageDescription: Thin Small Outline, Reverse Pinout; 40 Leads; Body Width 18.4 mm; Pitch 0.5 mm; Code_JEDEC: MO-142-CD; ComponentLink1Description: Manufacturer Link; ComponentLink1URL: http://www.spansion.com/; ComponentLink2Description: Datasheet; ComponentLink2URL: http://www.spansion.com/datasheets/21520d2.pdf
footprint TSR040 (Thin Small Outline, Reverse Pinout; 40 Leads; Body Width 18.4 mm; Pitch 0.5 mm)
pins: 1 A17 (in), 2 VSS (power), 3 NC, 4 NC, 5 A10 (in), 6 DQ7 (io), 7 DQ6 (io), 8 DQ5 (io), 9 DQ4 (io), 10 VCC (power), 11 VCC (power), 12 NC, 13 DQ3 (io), 14 DQ2 (io), 15 DQ1 (io), 16 DQ0 (io), 17 OE# (in), 18 VSS (power), 19 CE# (in), 20 A0 (in), 21 A1 (in), 22 A2 (in), 23 A3 (in), 24 A4 (in), 25 A5 (in), 26 A6 (in), 27 A7 (in), 28 NC, 29 RY/BY# (out), 30 NC, 31 RESET# (in), 32 WE# (in), 33 A8 (in), 34 A9 (in), 35 A11 (in), 36 A12 (in), 37 A13 (in), 38 A14 (in), 39 A15 (in), 40 A16 (in)

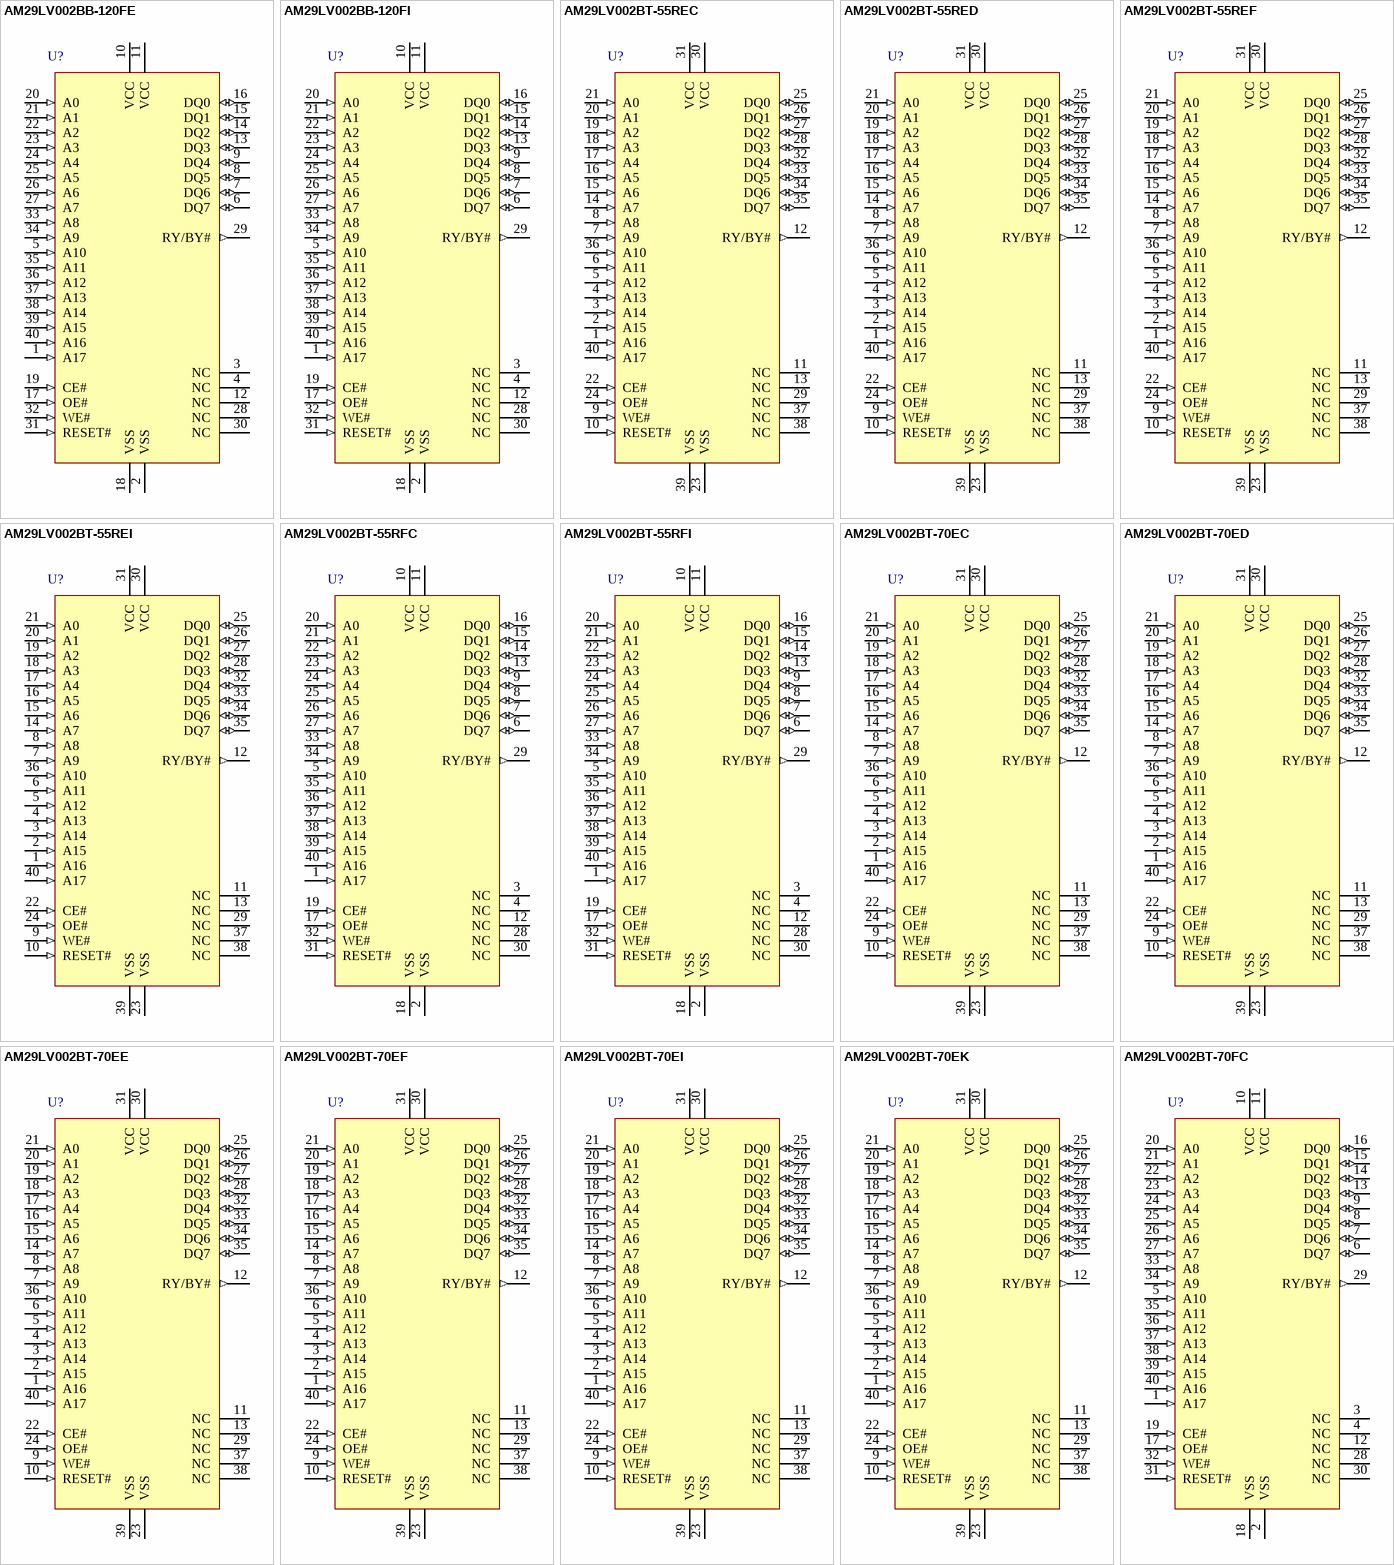
[diagram p7: symbols AM29LV002BB-120FE to AM29LV002BT-70FC]

## AM29LV002BB-120FE
designator U?
2 Mb (256 K x 8) CMOS 3.0 Volt, Boot Sector Flash Memory, 40-Pin TSOP Reverse Pinout, Extended Grade; Published: 6-Oct-2005; DatasheetVersion: Jun-2004; PackageVersion: revAA, 10/99; PackageReference: TSR040; Publisher: Altium Limited; PackageDescription: Thin Small Outline, Reverse Pinout; 40 Leads; Body Width 18.4 mm; Pitch 0.5 mm; Code_JEDEC: MO-142-CD; ComponentLink1Description: Manufacturer Link; ComponentLink1URL: http://www.spansion.com/; ComponentLink2Description: Datasheet; ComponentLink2URL: http://www.spansion.com/datasheets/21520d2.pdf
footprint TSR040 (Thin Small Outline, Reverse Pinout; 40 Leads; Body Width 18.4 mm; Pitch 0.5 mm)
pins: 1 A17 (in), 2 VSS (power), 3 NC, 4 NC, 5 A10 (in), 6 DQ7 (io), 7 DQ6 (io), 8 DQ5 (io), 9 DQ4 (io), 10 VCC (power), 11 VCC (power), 12 NC, 13 DQ3 (io), 14 DQ2 (io), 15 DQ1 (io), 16 DQ0 (io), 17 OE# (in), 18 VSS (power), 19 CE# (in), 20 A0 (in), 21 A1 (in), 22 A2 (in), 23 A3 (in), 24 A4 (in), 25 A5 (in), 26 A6 (in), 27 A7 (in), 28 NC, 29 RY/BY# (out), 30 NC, 31 RESET# (in), 32 WE# (in), 33 A8 (in), 34 A9 (in), 35 A11 (in), 36 A12 (in), 37 A13 (in), 38 A14 (in), 39 A15 (in), 40 A16 (in)

## AM29LV002BB-120FI
designator U?
2 Mb (256 K x 8) CMOS 3.0 Volt, Boot Sector Flash Memory, 40-Pin TSOP Reverse Pinout, Industrial Grade; Published: 6-Oct-2005; DatasheetVersion: Jun-2004; PackageVersion: revAA, 10/99; PackageReference: TSR040; Publisher: Altium Limited; PackageDescription: Thin Small Outline, Reverse Pinout; 40 Leads; Body Width 18.4 mm; Pitch 0.5 mm; Code_JEDEC: MO-142-CD; ComponentLink1Description: Manufacturer Link; ComponentLink1URL: http://www.spansion.com/; ComponentLink2Description: Datasheet; ComponentLink2URL: http://www.spansion.com/datasheets/21520d2.pdf
footprint TSR040 (Thin Small Outline, Reverse Pinout; 40 Leads; Body Width 18.4 mm; Pitch 0.5 mm)
pins: 1 A17 (in), 2 VSS (power), 3 NC, 4 NC, 5 A10 (in), 6 DQ7 (io), 7 DQ6 (io), 8 DQ5 (io), 9 DQ4 (io), 10 VCC (power), 11 VCC (power), 12 NC, 13 DQ3 (io), 14 DQ2 (io), 15 DQ1 (io), 16 DQ0 (io), 17 OE# (in), 18 VSS (power), 19 CE# (in), 20 A0 (in), 21 A1 (in), 22 A2 (in), 23 A3 (in), 24 A4 (in), 25 A5 (in), 26 A6 (in), 27 A7 (in), 28 NC, 29 RY/BY# (out), 30 NC, 31 RESET# (in), 32 WE# (in), 33 A8 (in), 34 A9 (in), 35 A11 (in), 36 A12 (in), 37 A13 (in), 38 A14 (in), 39 A15 (in), 40 A16 (in)

## AM29LV002BT-55REC
designator U?
2 Mb (256 K x 8) CMOS 3.0 Volt, Boot Sector Flash Memory, 40-Pin TSOP Standard Pinout, Commercial Grade; Published: 6-Oct-2005; DatasheetVersion: Jun-2004; PackageVersion: revAA, 10/99; PackageReference: TS040; Publisher: Altium Limited; PackageDescription: Thin Small Outline; 40 Leads; Body Width 18.4 mm; Pitch 0.5 mm; Code_JEDEC: MO-142-CD; ComponentLink1Description: Manufacturer Link; ComponentLink1URL: http://www.spansion.com/; ComponentLink2Description: Datasheet; ComponentLink2URL: http://www.spansion.com/datasheets/21520d2.pdf
footprint TS040 (Thin Small Outline; 40 Leads; Body Width 18.4 mm; Pitch 0.5 mm)
pins: 1 A16 (in), 2 A15 (in), 3 A14 (in), 4 A13 (in), 5 A12 (in), 6 A11 (in), 7 A9 (in), 8 A8 (in), 9 WE# (in), 10 RESET# (in), 11 NC, 12 RY/BY# (out), 13 NC, 14 A7 (in), 15 A6 (in), 16 A5 (in), 17 A4 (in), 18 A3 (in), 19 A2 (in), 20 A1 (in), 21 A0 (in), 22 CE# (in), 23 VSS (power), 24 OE# (in), 25 DQ0 (io), 26 DQ1 (io), 27 DQ2 (io), 28 DQ3 (io), 29 NC, 30 VCC (power), 31 VCC (power), 32 DQ4 (io), 33 DQ5 (io), 34 DQ6 (io), 35 DQ7 (io), 36 A10 (in), 37 NC, 38 NC, 39 VSS (power), 40 A17 (in)

## AM29LV002BT-55RED
designator U?
2 Mb (256 K x 8) CMOS 3.0 Volt, Boot Sector Flash Memory, 40-Pin TSOP Standard Pinout, Commercial Grade, Pb-free; Published: 6-Oct-2005; DatasheetVersion: Jun-2004; PackageVersion: revAA, 10/99; PackageReference: TS040; Publisher: Altium Limited; PackageDescription: Thin Small Outline; 40 Leads; Body Width 18.4 mm; Pitch 0.5 mm; Code_JEDEC: MO-142-CD; ComponentLink1Description: Manufacturer Link; ComponentLink1URL: http://www.spansion.com/; ComponentLink2Description: Datasheet; ComponentLink2URL: http://www.spansion.com/datasheets/21520d2.pdf
footprint TS040 (Thin Small Outline; 40 Leads; Body Width 18.4 mm; Pitch 0.5 mm)
pins: 1 A16 (in), 2 A15 (in), 3 A14 (in), 4 A13 (in), 5 A12 (in), 6 A11 (in), 7 A9 (in), 8 A8 (in), 9 WE# (in), 10 RESET# (in), 11 NC, 12 RY/BY# (out), 13 NC, 14 A7 (in), 15 A6 (in), 16 A5 (in), 17 A4 (in), 18 A3 (in), 19 A2 (in), 20 A1 (in), 21 A0 (in), 22 CE# (in), 23 VSS (power), 24 OE# (in), 25 DQ0 (io), 26 DQ1 (io), 27 DQ2 (io), 28 DQ3 (io), 29 NC, 30 VCC (power), 31 VCC (power), 32 DQ4 (io), 33 DQ5 (io), 34 DQ6 (io), 35 DQ7 (io), 36 A10 (in), 37 NC, 38 NC, 39 VSS (power), 40 A17 (in)

## AM29LV002BT-55REF
designator U?
2 Mb (256 K x 8) CMOS 3.0 Volt, Boot Sector Flash Memory, 40-Pin TSOP Standard Pinout, Industrial Grade, Pb-free; Published: 6-Oct-2005; DatasheetVersion: Jun-2004; PackageVersion: revAA, 10/99; PackageReference: TS040; Publisher: Altium Limited; PackageDescription: Thin Small Outline; 40 Leads; Body Width 18.4 mm; Pitch 0.5 mm; Code_JEDEC: MO-142-CD; ComponentLink1Description: Manufacturer Link; ComponentLink1URL: http://www.spansion.com/; ComponentLink2Description: Datasheet; ComponentLink2URL: http://www.spansion.com/datasheets/21520d2.pdf
footprint TS040 (Thin Small Outline; 40 Leads; Body Width 18.4 mm; Pitch 0.5 mm)
pins: 1 A16 (in), 2 A15 (in), 3 A14 (in), 4 A13 (in), 5 A12 (in), 6 A11 (in), 7 A9 (in), 8 A8 (in), 9 WE# (in), 10 RESET# (in), 11 NC, 12 RY/BY# (out), 13 NC, 14 A7 (in), 15 A6 (in), 16 A5 (in), 17 A4 (in), 18 A3 (in), 19 A2 (in), 20 A1 (in), 21 A0 (in), 22 CE# (in), 23 VSS (power), 24 OE# (in), 25 DQ0 (io), 26 DQ1 (io), 27 DQ2 (io), 28 DQ3 (io), 29 NC, 30 VCC (power), 31 VCC (power), 32 DQ4 (io), 33 DQ5 (io), 34 DQ6 (io), 35 DQ7 (io), 36 A10 (in), 37 NC, 38 NC, 39 VSS (power), 40 A17 (in)

## AM29LV002BT-55REI
designator U?
2 Mb (256 K x 8) CMOS 3.0 Volt, Boot Sector Flash Memory, 40-Pin TSOP Standard Pinout, Industrial Grade; Published: 6-Oct-2005; DatasheetVersion: Jun-2004; PackageVersion: revAA, 10/99; PackageReference: TS040; Publisher: Altium Limited; PackageDescription: Thin Small Outline; 40 Leads; Body Width 18.4 mm; Pitch 0.5 mm; Code_JEDEC: MO-142-CD; ComponentLink1Description: Manufacturer Link; ComponentLink1URL: http://www.spansion.com/; ComponentLink2Description: Datasheet; ComponentLink2URL: http://www.spansion.com/datasheets/21520d2.pdf
footprint TS040 (Thin Small Outline; 40 Leads; Body Width 18.4 mm; Pitch 0.5 mm)
pins: 1 A16 (in), 2 A15 (in), 3 A14 (in), 4 A13 (in), 5 A12 (in), 6 A11 (in), 7 A9 (in), 8 A8 (in), 9 WE# (in), 10 RESET# (in), 11 NC, 12 RY/BY# (out), 13 NC, 14 A7 (in), 15 A6 (in), 16 A5 (in), 17 A4 (in), 18 A3 (in), 19 A2 (in), 20 A1 (in), 21 A0 (in), 22 CE# (in), 23 VSS (power), 24 OE# (in), 25 DQ0 (io), 26 DQ1 (io), 27 DQ2 (io), 28 DQ3 (io), 29 NC, 30 VCC (power), 31 VCC (power), 32 DQ4 (io), 33 DQ5 (io), 34 DQ6 (io), 35 DQ7 (io), 36 A10 (in), 37 NC, 38 NC, 39 VSS (power), 40 A17 (in)

## AM29LV002BT-55RFC
designator U?
2 Mb (256 K x 8) CMOS 3.0 Volt, Boot Sector Flash Memory, 40-Pin TSOP Reverse Pinout, Commercial Grade; Published: 6-Oct-2005; DatasheetVersion: Jun-2004; PackageVersion: revAA, 10/99; PackageReference: TSR040; Publisher: Altium Limited; PackageDescription: Thin Small Outline, Reverse Pinout; 40 Leads; Body Width 18.4 mm; Pitch 0.5 mm; Code_JEDEC: MO-142-CD; ComponentLink1Description: Manufacturer Link; ComponentLink1URL: http://www.spansion.com/; ComponentLink2Description: Datasheet; ComponentLink2URL: http://www.spansion.com/datasheets/21520d2.pdf
footprint TSR040 (Thin Small Outline, Reverse Pinout; 40 Leads; Body Width 18.4 mm; Pitch 0.5 mm)
pins: 1 A17 (in), 2 VSS (power), 3 NC, 4 NC, 5 A10 (in), 6 DQ7 (io), 7 DQ6 (io), 8 DQ5 (io), 9 DQ4 (io), 10 VCC (power), 11 VCC (power), 12 NC, 13 DQ3 (io), 14 DQ2 (io), 15 DQ1 (io), 16 DQ0 (io), 17 OE# (in), 18 VSS (power), 19 CE# (in), 20 A0 (in), 21 A1 (in), 22 A2 (in), 23 A3 (in), 24 A4 (in), 25 A5 (in), 26 A6 (in), 27 A7 (in), 28 NC, 29 RY/BY# (out), 30 NC, 31 RESET# (in), 32 WE# (in), 33 A8 (in), 34 A9 (in), 35 A11 (in), 36 A12 (in), 37 A13 (in), 38 A14 (in), 39 A15 (in), 40 A16 (in)

## AM29LV002BT-55RFI
designator U?
2 Mb (256 K x 8) CMOS 3.0 Volt, Boot Sector Flash Memory, 40-Pin TSOP Reverse Pinout, Industrial Grade; Published: 6-Oct-2005; DatasheetVersion: Jun-2004; PackageVersion: revAA, 10/99; PackageReference: TSR040; Publisher: Altium Limited; PackageDescription: Thin Small Outline, Reverse Pinout; 40 Leads; Body Width 18.4 mm; Pitch 0.5 mm; Code_JEDEC: MO-142-CD; ComponentLink1Description: Manufacturer Link; ComponentLink1URL: http://www.spansion.com/; ComponentLink2Description: Datasheet; ComponentLink2URL: http://www.spansion.com/datasheets/21520d2.pdf
footprint TSR040 (Thin Small Outline, Reverse Pinout; 40 Leads; Body Width 18.4 mm; Pitch 0.5 mm)
pins: 1 A17 (in), 2 VSS (power), 3 NC, 4 NC, 5 A10 (in), 6 DQ7 (io), 7 DQ6 (io), 8 DQ5 (io), 9 DQ4 (io), 10 VCC (power), 11 VCC (power), 12 NC, 13 DQ3 (io), 14 DQ2 (io), 15 DQ1 (io), 16 DQ0 (io), 17 OE# (in), 18 VSS (power), 19 CE# (in), 20 A0 (in), 21 A1 (in), 22 A2 (in), 23 A3 (in), 24 A4 (in), 25 A5 (in), 26 A6 (in), 27 A7 (in), 28 NC, 29 RY/BY# (out), 30 NC, 31 RESET# (in), 32 WE# (in), 33 A8 (in), 34 A9 (in), 35 A11 (in), 36 A12 (in), 37 A13 (in), 38 A14 (in), 39 A15 (in), 40 A16 (in)

## AM29LV002BT-70EC
designator U?
2 Mb (256 K x 8) CMOS 3.0 Volt, Boot Sector Flash Memory, 40-Pin TSOP Standard Pinout, Commercial Grade; Published: 6-Oct-2005; DatasheetVersion: Jun-2004; PackageVersion: revAA, 10/99; PackageReference: TS040; Publisher: Altium Limited; PackageDescription: Thin Small Outline; 40 Leads; Body Width 18.4 mm; Pitch 0.5 mm; Code_JEDEC: MO-142-CD; ComponentLink1Description: Manufacturer Link; ComponentLink1URL: http://www.spansion.com/; ComponentLink2Description: Datasheet; ComponentLink2URL: http://www.spansion.com/datasheets/21520d2.pdf
footprint TS040 (Thin Small Outline; 40 Leads; Body Width 18.4 mm; Pitch 0.5 mm)
pins: 1 A16 (in), 2 A15 (in), 3 A14 (in), 4 A13 (in), 5 A12 (in), 6 A11 (in), 7 A9 (in), 8 A8 (in), 9 WE# (in), 10 RESET# (in), 11 NC, 12 RY/BY# (out), 13 NC, 14 A7 (in), 15 A6 (in), 16 A5 (in), 17 A4 (in), 18 A3 (in), 19 A2 (in), 20 A1 (in), 21 A0 (in), 22 CE# (in), 23 VSS (power), 24 OE# (in), 25 DQ0 (io), 26 DQ1 (io), 27 DQ2 (io), 28 DQ3 (io), 29 NC, 30 VCC (power), 31 VCC (power), 32 DQ4 (io), 33 DQ5 (io), 34 DQ6 (io), 35 DQ7 (io), 36 A10 (in), 37 NC, 38 NC, 39 VSS (power), 40 A17 (in)

## AM29LV002BT-70ED
designator U?
2 Mb (256 K x 8) CMOS 3.0 Volt, Boot Sector Flash Memory, 40-Pin TSOP Standard Pinout, Commercial Grade, Pb-free; Published: 6-Oct-2005; DatasheetVersion: Jun-2004; PackageVersion: revAA, 10/99; PackageReference: TS040; Publisher: Altium Limited; PackageDescription: Thin Small Outline; 40 Leads; Body Width 18.4 mm; Pitch 0.5 mm; Code_JEDEC: MO-142-CD; ComponentLink1Description: Manufacturer Link; ComponentLink1URL: http://www.spansion.com/; ComponentLink2Description: Datasheet; ComponentLink2URL: http://www.spansion.com/datasheets/21520d2.pdf
footprint TS040 (Thin Small Outline; 40 Leads; Body Width 18.4 mm; Pitch 0.5 mm)
pins: 1 A16 (in), 2 A15 (in), 3 A14 (in), 4 A13 (in), 5 A12 (in), 6 A11 (in), 7 A9 (in), 8 A8 (in), 9 WE# (in), 10 RESET# (in), 11 NC, 12 RY/BY# (out), 13 NC, 14 A7 (in), 15 A6 (in), 16 A5 (in), 17 A4 (in), 18 A3 (in), 19 A2 (in), 20 A1 (in), 21 A0 (in), 22 CE# (in), 23 VSS (power), 24 OE# (in), 25 DQ0 (io), 26 DQ1 (io), 27 DQ2 (io), 28 DQ3 (io), 29 NC, 30 VCC (power), 31 VCC (power), 32 DQ4 (io), 33 DQ5 (io), 34 DQ6 (io), 35 DQ7 (io), 36 A10 (in), 37 NC, 38 NC, 39 VSS (power), 40 A17 (in)

## AM29LV002BT-70EE
designator U?
2 Mb (256 K x 8) CMOS 3.0 Volt, Boot Sector Flash Memory, 40-Pin TSOP Standard Pinout, Extended Grade; Published: 6-Oct-2005; DatasheetVersion: Jun-2004; PackageVersion: revAA, 10/99; PackageReference: TS040; Publisher: Altium Limited; PackageDescription: Thin Small Outline; 40 Leads; Body Width 18.4 mm; Pitch 0.5 mm; Code_JEDEC: MO-142-CD; ComponentLink1Description: Manufacturer Link; ComponentLink1URL: http://www.spansion.com/; ComponentLink2Description: Datasheet; ComponentLink2URL: http://www.spansion.com/datasheets/21520d2.pdf
footprint TS040 (Thin Small Outline; 40 Leads; Body Width 18.4 mm; Pitch 0.5 mm)
pins: 1 A16 (in), 2 A15 (in), 3 A14 (in), 4 A13 (in), 5 A12 (in), 6 A11 (in), 7 A9 (in), 8 A8 (in), 9 WE# (in), 10 RESET# (in), 11 NC, 12 RY/BY# (out), 13 NC, 14 A7 (in), 15 A6 (in), 16 A5 (in), 17 A4 (in), 18 A3 (in), 19 A2 (in), 20 A1 (in), 21 A0 (in), 22 CE# (in), 23 VSS (power), 24 OE# (in), 25 DQ0 (io), 26 DQ1 (io), 27 DQ2 (io), 28 DQ3 (io), 29 NC, 30 VCC (power), 31 VCC (power), 32 DQ4 (io), 33 DQ5 (io), 34 DQ6 (io), 35 DQ7 (io), 36 A10 (in), 37 NC, 38 NC, 39 VSS (power), 40 A17 (in)

## AM29LV002BT-70EF
designator U?
2 Mb (256 K x 8) CMOS 3.0 Volt, Boot Sector Flash Memory, 40-Pin TSOP Standard Pinout, Industrial Grade, Pb-free; Published: 6-Oct-2005; DatasheetVersion: Jun-2004; PackageVersion: revAA, 10/99; PackageReference: TS040; Publisher: Altium Limited; PackageDescription: Thin Small Outline; 40 Leads; Body Width 18.4 mm; Pitch 0.5 mm; Code_JEDEC: MO-142-CD; ComponentLink1Description: Manufacturer Link; ComponentLink1URL: http://www.spansion.com/; ComponentLink2Description: Datasheet; ComponentLink2URL: http://www.spansion.com/datasheets/21520d2.pdf
footprint TS040 (Thin Small Outline; 40 Leads; Body Width 18.4 mm; Pitch 0.5 mm)
pins: 1 A16 (in), 2 A15 (in), 3 A14 (in), 4 A13 (in), 5 A12 (in), 6 A11 (in), 7 A9 (in), 8 A8 (in), 9 WE# (in), 10 RESET# (in), 11 NC, 12 RY/BY# (out), 13 NC, 14 A7 (in), 15 A6 (in), 16 A5 (in), 17 A4 (in), 18 A3 (in), 19 A2 (in), 20 A1 (in), 21 A0 (in), 22 CE# (in), 23 VSS (power), 24 OE# (in), 25 DQ0 (io), 26 DQ1 (io), 27 DQ2 (io), 28 DQ3 (io), 29 NC, 30 VCC (power), 31 VCC (power), 32 DQ4 (io), 33 DQ5 (io), 34 DQ6 (io), 35 DQ7 (io), 36 A10 (in), 37 NC, 38 NC, 39 VSS (power), 40 A17 (in)

## AM29LV002BT-70EI
designator U?
2 Mb (256 K x 8) CMOS 3.0 Volt, Boot Sector Flash Memory, 40-Pin TSOP Standard Pinout, Industrial Grade; Published: 6-Oct-2005; DatasheetVersion: Jun-2004; PackageVersion: revAA, 10/99; PackageReference: TS040; Publisher: Altium Limited; PackageDescription: Thin Small Outline; 40 Leads; Body Width 18.4 mm; Pitch 0.5 mm; Code_JEDEC: MO-142-CD; ComponentLink1Description: Manufacturer Link; ComponentLink1URL: http://www.spansion.com/; ComponentLink2Description: Datasheet; ComponentLink2URL: http://www.spansion.com/datasheets/21520d2.pdf
footprint TS040 (Thin Small Outline; 40 Leads; Body Width 18.4 mm; Pitch 0.5 mm)
pins: 1 A16 (in), 2 A15 (in), 3 A14 (in), 4 A13 (in), 5 A12 (in), 6 A11 (in), 7 A9 (in), 8 A8 (in), 9 WE# (in), 10 RESET# (in), 11 NC, 12 RY/BY# (out), 13 NC, 14 A7 (in), 15 A6 (in), 16 A5 (in), 17 A4 (in), 18 A3 (in), 19 A2 (in), 20 A1 (in), 21 A0 (in), 22 CE# (in), 23 VSS (power), 24 OE# (in), 25 DQ0 (io), 26 DQ1 (io), 27 DQ2 (io), 28 DQ3 (io), 29 NC, 30 VCC (power), 31 VCC (power), 32 DQ4 (io), 33 DQ5 (io), 34 DQ6 (io), 35 DQ7 (io), 36 A10 (in), 37 NC, 38 NC, 39 VSS (power), 40 A17 (in)

## AM29LV002BT-70EK
designator U?
2 Mb (256 K x 8) CMOS 3.0 Volt, Boot Sector Flash Memory, 40-Pin TSOP Standard Pinout, Extended Grade, Pb-free; Published: 6-Oct-2005; DatasheetVersion: Jun-2004; PackageVersion: revAA, 10/99; PackageReference: TS040; Publisher: Altium Limited; PackageDescription: Thin Small Outline; 40 Leads; Body Width 18.4 mm; Pitch 0.5 mm; Code_JEDEC: MO-142-CD; ComponentLink1Description: Manufacturer Link; ComponentLink1URL: http://www.spansion.com/; ComponentLink2Description: Datasheet; ComponentLink2URL: http://www.spansion.com/datasheets/21520d2.pdf
footprint TS040 (Thin Small Outline; 40 Leads; Body Width 18.4 mm; Pitch 0.5 mm)
pins: 1 A16 (in), 2 A15 (in), 3 A14 (in), 4 A13 (in), 5 A12 (in), 6 A11 (in), 7 A9 (in), 8 A8 (in), 9 WE# (in), 10 RESET# (in), 11 NC, 12 RY/BY# (out), 13 NC, 14 A7 (in), 15 A6 (in), 16 A5 (in), 17 A4 (in), 18 A3 (in), 19 A2 (in), 20 A1 (in), 21 A0 (in), 22 CE# (in), 23 VSS (power), 24 OE# (in), 25 DQ0 (io), 26 DQ1 (io), 27 DQ2 (io), 28 DQ3 (io), 29 NC, 30 VCC (power), 31 VCC (power), 32 DQ4 (io), 33 DQ5 (io), 34 DQ6 (io), 35 DQ7 (io), 36 A10 (in), 37 NC, 38 NC, 39 VSS (power), 40 A17 (in)

## AM29LV002BT-70FC
designator U?
2 Mb (256 K x 8) CMOS 3.0 Volt, Boot Sector Flash Memory, 40-Pin TSOP Reverse Pinout, Commercial Grade; Published: 6-Oct-2005; DatasheetVersion: Jun-2004; PackageVersion: revAA, 10/99; PackageReference: TSR040; Publisher: Altium Limited; PackageDescription: Thin Small Outline, Reverse Pinout; 40 Leads; Body Width 18.4 mm; Pitch 0.5 mm; Code_JEDEC: MO-142-CD; ComponentLink1Description: Manufacturer Link; ComponentLink1URL: http://www.spansion.com/; ComponentLink2Description: Datasheet; ComponentLink2URL: http://www.spansion.com/datasheets/21520d2.pdf
footprint TSR040 (Thin Small Outline, Reverse Pinout; 40 Leads; Body Width 18.4 mm; Pitch 0.5 mm)
pins: 1 A17 (in), 2 VSS (power), 3 NC, 4 NC, 5 A10 (in), 6 DQ7 (io), 7 DQ6 (io), 8 DQ5 (io), 9 DQ4 (io), 10 VCC (power), 11 VCC (power), 12 NC, 13 DQ3 (io), 14 DQ2 (io), 15 DQ1 (io), 16 DQ0 (io), 17 OE# (in), 18 VSS (power), 19 CE# (in), 20 A0 (in), 21 A1 (in), 22 A2 (in), 23 A3 (in), 24 A4 (in), 25 A5 (in), 26 A6 (in), 27 A7 (in), 28 NC, 29 RY/BY# (out), 30 NC, 31 RESET# (in), 32 WE# (in), 33 A8 (in), 34 A9 (in), 35 A11 (in), 36 A12 (in), 37 A13 (in), 38 A14 (in), 39 A15 (in), 40 A16 (in)

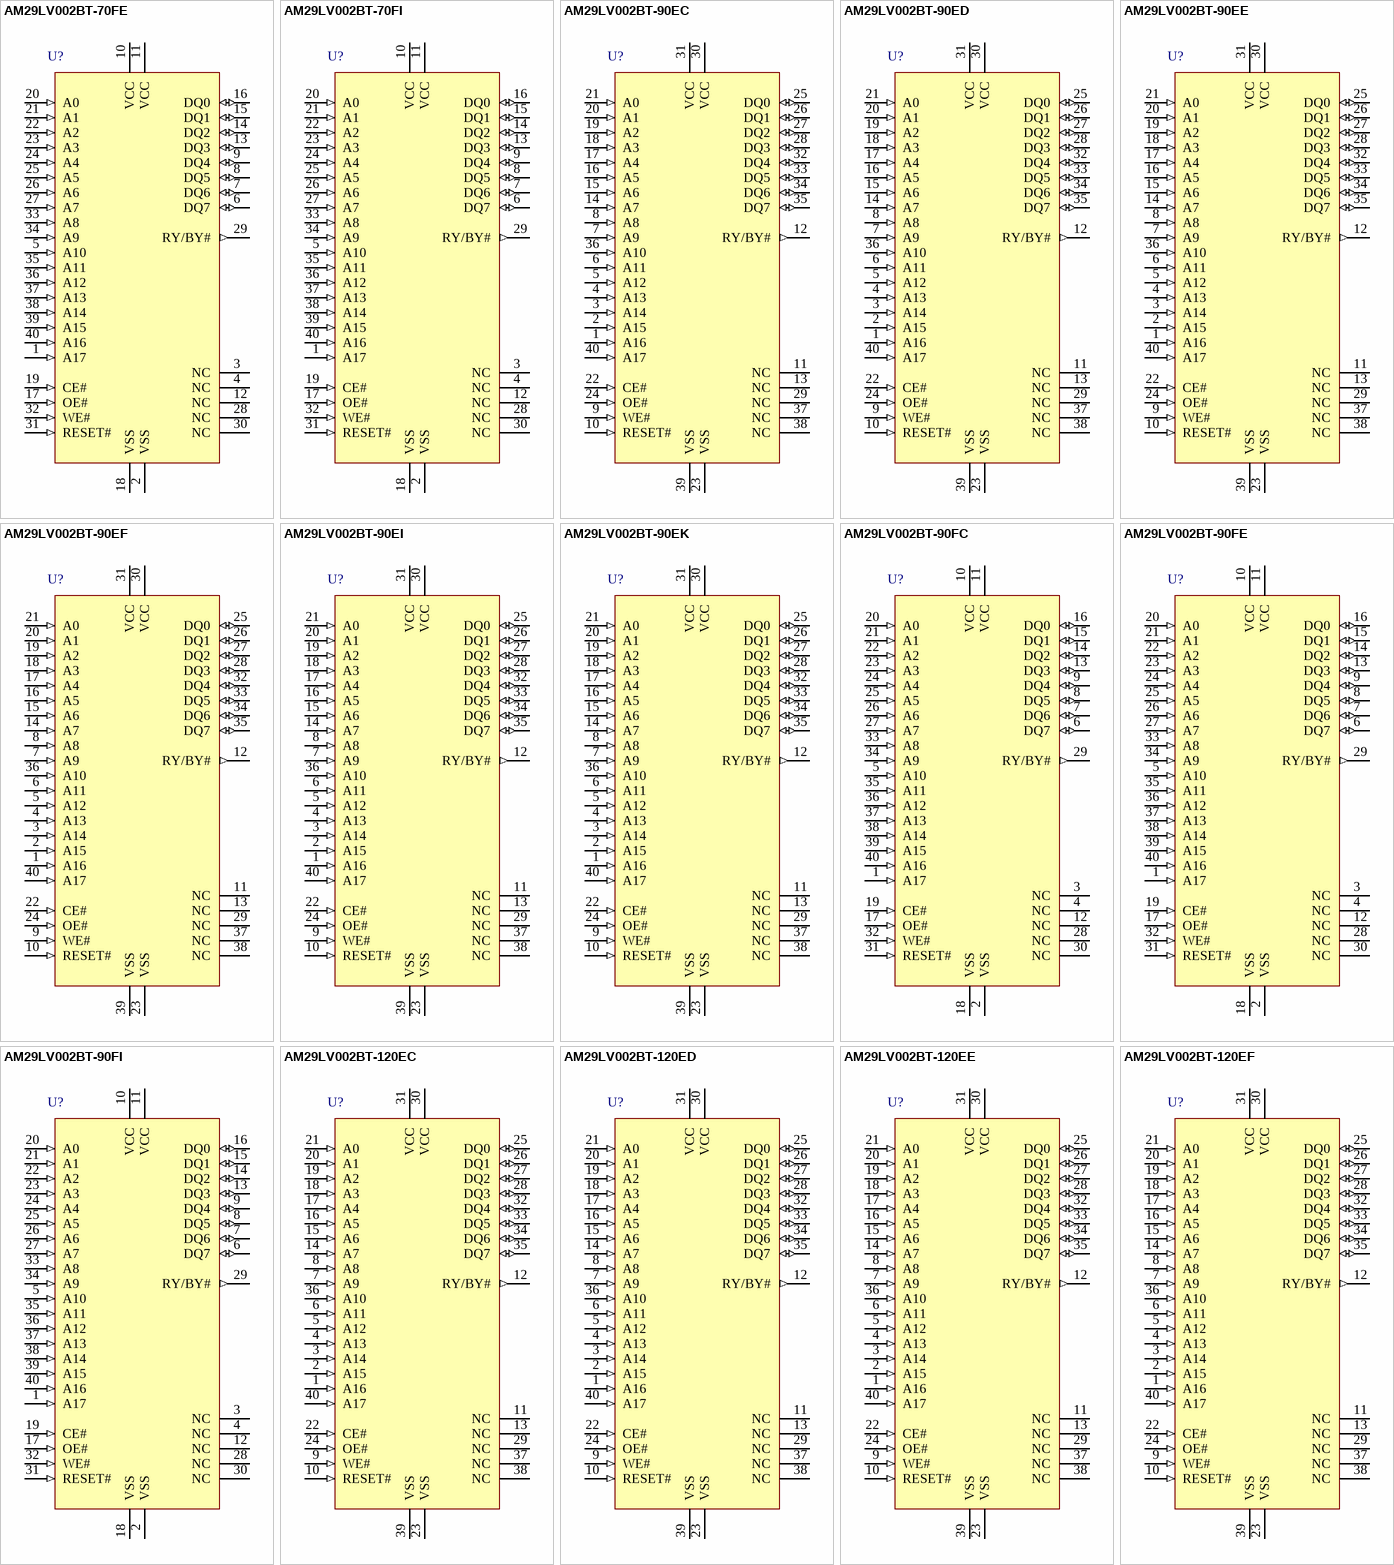
[diagram p8: symbols AM29LV002BT-70FE to AM29LV002BT-120EF]